# Altium footprint library Divers.PcbLib: 10 footprints
Each footprint in its own frame and in the unit in brackets; x right, y up, seen from the top. Pads: shape width x height; smd on the part's side, far side on the other; paste and mask are expansions set on the pad; w line width, h text height; cw(c..) or ccw(c..) is an arc to the next point about the centre after c.
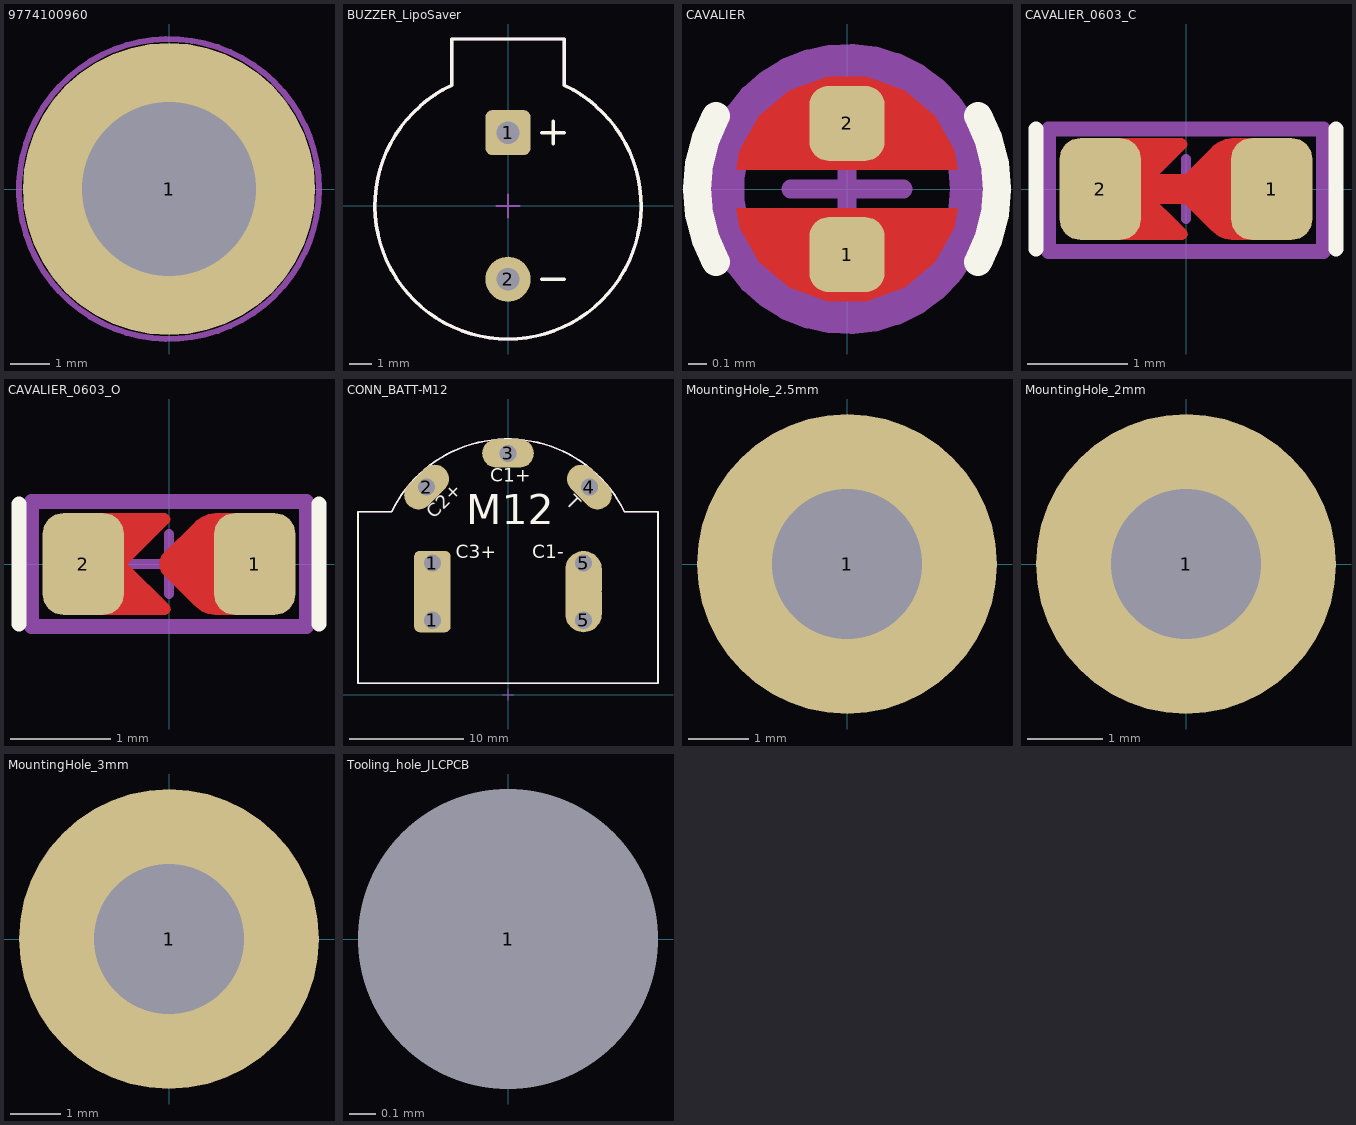
[diagram p0: the footprints below, top view; thin cyan lines are the x and y axes]

## 9774100960 [mm] "SMT Steel Spacer Internal hole diameter 3.3mm non stop, height 10mm"
height 10
pads (1):
  round 7.4 hole 4.4: 1(0,0)
Top Paste:
  region: 0.4,3.613 0.4,2.204 0.566,2.167 0.886,2.057 1.186,1.9 1.46,1.699 1.699,1.46 1.9,1.186 2.057,0.886 2.167,0.566 2.204,0.4 3.613,0.4 3.59,0.603 3.5,1.003 3.365,1.389 3.188,1.759 2.97,2.105 2.715,2.426 2.426,2.715 2.105,2.97 1.759,3.188 1.389,3.365 1.003,3.5 0.603,3.59
  region: 3.613,-0.4 2.204,-0.4 2.167,-0.566 2.057,-0.886 1.9,-1.186 1.699,-1.46 1.46,-1.699 1.186,-1.9 0.886,-2.057 0.566,-2.167 0.4,-2.204 0.4,-3.613 0.603,-3.59 1.003,-3.5 1.389,-3.365 1.759,-3.188 2.105,-2.97 2.426,-2.715 2.715,-2.426 2.97,-2.105 3.188,-1.759 3.365,-1.389 3.5,-1.003 3.59,-0.603
  region: -0.4,-3.613 -0.4,-2.204 -0.566,-2.167 -0.886,-2.057 -1.186,-1.9 -1.46,-1.699 -1.699,-1.46 -1.9,-1.186 -2.057,-0.886 -2.167,-0.566 -2.204,-0.4 -3.613,-0.4 -3.59,-0.603 -3.5,-1.003 -3.365,-1.389 -3.188,-1.759 -2.97,-2.105 -2.715,-2.426 -2.426,-2.715 -2.105,-2.97 -1.759,-3.188 -1.389,-3.365 -1.003,-3.5 -0.603,-3.59
  region: -3.613,0.4 -2.204,0.4 -2.167,0.566 -2.057,0.886 -1.9,1.186 -1.699,1.46 -1.46,1.699 -1.186,1.9 -0.886,2.057 -0.566,2.167 -0.4,2.204 -0.4,3.613 -0.603,3.59 -1.003,3.5 -1.389,3.365 -1.759,3.188 -2.105,2.97 -2.426,2.715 -2.715,2.426 -2.97,2.105 -3.188,1.759 -3.365,1.389 -3.5,1.003 -3.59,0.603
Mechanical 13:
  circle w0.1: c0,0 r3
Mechanical 15:
  circle w0.15: c0,0 r3.8
  lines w0.1: -0.5,0 0.5,0 ; 0,-0.5 0,0.5
Mechanical 17 (Mech17):
  text ".Designator" at -0.4,-0.2 h1.5
3D body "9774100960.stp": height 10, standoff -1.4, extent -3,-3 3,3

## BUZZER_LipoSaver [mm] "Buzzer extrait de la carte LipoSaver"
height 7.7
pads (2):
  rrect30% 2x2 hole 1: 1(0,3.25)
  round 2 hole 1: 2(0,-3.25)
Top Overlay:
  lines w0.15: 1.5,-3.25 2.5,-3.25 ; 1.5,3.25 2.5,3.25 ; 2,2.75 2,3.75 ; -2.5,5.344 ccw(c0,0) 2.5,5.344 2.5,7.4 -2.5,7.4 -2.5,5.344
Mechanical 15:
  lines w0.1: -0.5,0 0.5,0 ; 0,-0.5 0,0.5
  lines w0.15: -2.5,5.344 ccw(c0,0) 2.5,5.344 2.5,7.4 -2.5,7.4 -2.5,5.344
Mechanical 17 (Mech17):
  text ".Designator" at -0.5,0 h1.5
3D body "Lipo_saver_buzzer.STEP": height 7.5, standoff -1.9, extent -6,-6 6,7.4

## CAVALIER [mm] "Connection personnalisé pour bord de carte"
pads (2):
  rrect50% 0.4x0.4 smd: 1(0,-0.35) 2(0,0.35)
Top Layer:
  region: -0.591,-0.102 -0.573,-0.206 -0.468,-0.39 -0.305,-0.527 -0.106,-0.6 0.106,-0.6 0.305,-0.527 0.468,-0.39 0.573,-0.206 0.591,-0.102
  region: -0.591,0.102 0.591,0.102 0.573,0.206 0.468,0.39 0.305,0.527 0.106,0.6 -0.106,0.6 -0.305,0.527 -0.468,0.39 -0.573,0.206
Top Overlay:
  lines w0.15: -0.699,-0.389 cw(c0,0) -0.699,0.389 ; 0.699,-0.389 ccw(c0,0) 0.699,0.389
Top Solder:
  circle w0.254: c0,0 r0.6
  region: 0,-0.6 -0.119,-0.6 -0.34,-0.509 -0.509,-0.34 -0.6,-0.119 -0.6,0 -0.6,0.119 -0.509,0.34 -0.34,0.509 -0.119,0.6 0,0.6 0.119,0.6 0.34,0.509 0.509,0.34 0.6,0.119 0.6,0 0.6,-0.119 0.509,-0.34 0.34,-0.509 0.119,-0.6
Mechanical 13:
  circle w0.1: c0,0 r0.6
Mechanical 15:
  circle w0.15: c0,0 r0.7
  lines w0.1: -0.3,0 0.3,0 ; 0,-0.3 0,0.3
Mechanical 17 (Mech17):
  text ".Designator" at -0.4,-0.2 h0.6

## CAVALIER_0603_C [mil] "Jumper ferme"
pads (2):
  rrect50% 32x40 smd: 1(33.75,0) 2(-33.75,0)
Top Layer:
  region: -26.25,0 -16.25,0 -0.15,-16.1 0.34,-16.59 0.61,-17.95 0.08,-19.23 -1.07,-20 -1.76,-20 -26.25,-20
  region: -26.25,0 -16.25,0 -0.25,16 0.25,16.5 0.53,17.9 -0.02,19.21 -1.2,20 -1.91,20 -26.25,20
  region: 3.94,5.91 -19.68,5.91 -19.68,-5.91 3.94,-5.91
  region: 33.75,20 19.24,20 17.94,20 15.37,19.49 12.96,18.49 10.79,17.04 9.87,16.12 -6.25,0 9.94,-16.19 10.84,-17.09 12.98,-18.52 15.35,-19.5 17.86,-20 19.14,-20 33.75,-20
Top Overlay:
  lines w5.91: -59.06,-23.62 -59.06,23.62 ; 59.06,-23.62 59.06,23.62
Top Paste:
  region: -26.25,0 -16.25,0 3.75,-20 -26.25,-20
  region: -26.25,0 -16.25,0 3.75,20 -26.25,20
  region: 23.75,20 13.75,20 -6.25,0 13.75,-20 23.75,-20
Top Solder:
  region: -26.25,0 -16.25,0 2.16,18.41 2.82,19.06 3.18,20.88 2.47,22.59 0.93,23.62 0,23.62 -26.25,23.62
  region: -26.25,0 -16.25,0 2.19,-18.45 2.84,-19.1 3.19,-20.9 2.49,-22.6 0.96,-23.62 0.04,-23.62 -26.25,-23.62
  region: 23.75,23.62 17.37,23.62 -1.91,4.34 -2.77,3.48 -3.71,1.22 -3.71,-1.22 -2.77,-3.48 -1.91,-4.34 17.37,-23.62 23.75,-23.62
Mechanical 13:
  circle w3.94: c25.59,0 r7.87
  circle w3.94: c-25.59,0 r7.87
  lines w3.94: -17.72,0 17.72,0 ; -54.13,-24.61 54.13,-24.61 54.13,24.61 -54.13,24.61 -54.13,-24.61
Mechanical 15:
  lines w3.94: -11.81,0 11.81,0 ; 0,-11.81 0,11.81
  lines w5.91: -54.13,-24.61 54.13,-24.61 54.13,23.62 -54.13,23.62 -54.13,-24.61
Mechanical 17 (Mech17):
  text ".Designator" at -15.75,-7.87 h39.37

## CAVALIER_0603_O [mil] "Jumper ouvert"
pads (2):
  rrect50% 32x40 smd: 1(33.75,0) 2(-33.75,0)
Top Layer:
  region: -26.25,0 -16.25,0 -0.15,-16.1 0.34,-16.59 0.61,-17.95 0.08,-19.23 -1.07,-20 -1.76,-20 -26.25,-20
  region: -26.25,0 -16.25,0 -0.25,16 0.25,16.5 0.53,17.9 -0.02,19.21 -1.2,20 -1.91,20 -26.25,20
  region: 33.75,20 19.24,20 17.94,20 15.37,19.49 12.96,18.49 10.79,17.04 9.87,16.12 -1.91,4.34 -2.77,3.48 -3.71,1.22 -3.71,-1.22 -2.77,-3.47 -1.91,-4.34 9.94,-16.19 10.84,-17.09 12.98,-18.52 15.35,-19.5 17.86,-20 19.14,-20 33.75,-20
Top Overlay:
  lines w5.91: -59.06,-23.62 -59.06,23.62 ; 59.06,-23.62 59.06,23.62
Top Paste:
  region: -26.25,0 -16.25,0 3.75,-20 -26.25,-20
  region: -26.25,0 -16.25,0 3.75,20 -26.25,20
  region: 23.75,20 13.75,20 -6.25,0 13.75,-20 23.75,-20
Top Solder:
  region: -26.25,0 -16.25,0 2.16,18.41 2.82,19.06 3.18,20.88 2.47,22.59 0.93,23.62 0,23.62 -26.25,23.62
  region: -26.25,0 -16.25,0 2.19,-18.45 2.84,-19.1 3.19,-20.9 2.49,-22.6 0.96,-23.62 0.04,-23.62 -26.25,-23.62
  region: 23.75,23.62 17.37,23.62 -1.91,4.34 -2.77,3.48 -3.71,1.22 -3.71,-1.22 -2.77,-3.48 -1.91,-4.34 17.37,-23.62 23.75,-23.62
Mechanical 13:
  circle w3.94: c25.59,0 r7.87
  circle w3.94: c-25.59,0 r7.87
  lines w3.94: -17.72,0 -11.81,0 ; 11.81,0 17.72,0 ; -54.13,-24.61 54.13,-24.61 54.13,24.61 -54.13,24.61 -54.13,-24.61
Mechanical 15:
  lines w3.94: -11.81,0 11.81,0 ; 0,-11.81 0,11.81
  lines w5.91: -54.13,-24.61 54.13,-24.61 54.13,24.61 -54.13,24.61 -54.13,-24.61
Mechanical 17 (Mech17):
  text ".Designator" at -15.75,-7.87 h39.37

## CONN_BATT-M12 [mm] "Batterie connector for Milwaukee M12, use 2x RS 125-2006 and 3x RS 125-2000"
height 9.2
pads (7):
  rrect30% 3.2x5 hole 1.5 copper offset 0,1.45: 1(-6.6,6.5)
  rrect30% 3.2x5 hole 1.5 copper offset 0,-1.45: 1(-6.6,11.5)
  rrect100% 2.5x4.5 hole 1.5 rot 135: 2(-7.106,18.134)
  oval 4.5x2.5 hole 1.5: 3(0,21.077)
  oval 2.5x4.5 hole 1.5 rot 45: 4(7.106,18.134)
  rrect100% 3.2x5 hole 1.5 copper offset 0,1.45: 5(6.6,6.5)
  rrect100% 3.2x5 hole 1.5 copper offset 0,-1.45: 5(6.6,11.5)
Top Overlay:
  lines w0.15: -10.155,15.983 cw(c0,11.027) 10.153,15.988 ; -10.155,15.986 -13.1,15.986 -13.1,1 13.1,1 13.1,15.986 10.148,15.986
  text "M12" at -3.663,14 h4.5
  text "C3+" at -4.571,11.543 h2
  text "C1+" at -1.571,18.221 h2
  text "C1-" at 2.132,11.521 h2
  text "T" at 4.714,16.457 h2
  text "C2+" at -6.197,15.003 h2
Mechanical 15:
  lines w0.1: -0.5,0 0.5,0 ; 0,-0.5 0,0.5
  lines w0.15: -10.155,15.983 cw(c0,11.027) 10.153,15.988 ; -10.155,15.986 -13.1,15.986 -13.1,1 13.1,1 13.1,15.986 10.148,15.986
Mechanical 17 (Mech17):
  text ".Designator" at -0.4,-0.2 h1.5
3D body "cosse_6.35x0.8 RS-1252006.STEP": height 9.45, standoff -4.6, extent 6.19,5.125 7.01,12.875
3D body "cosse_6.35x0.8 RS-1252006.STEP": height 9.45, standoff -4.6, extent -7.01,5.125 -6.19,12.875
3D body "cosse_2.8x0.8 RS-1252000.STEP": height 8.95, standoff -4.7, extent -8.811,16.43 -5.402,19.838
3D body "cosse_2.8x0.8 RS-1252000.STEP": height 8.95, standoff -4.7, extent -2,20.667 2,21.487
3D body "cosse_2.8x0.8 RS-1252000.STEP": height 8.95, standoff -4.7, extent 5.402,16.43 8.81,19.838

## MountingHole_2.5mm [mm]
pads (1):
  round 5 hole 2.5: 1(0,0)

## MountingHole_2mm [mm]
pads (1):
  round 4 hole 2: 1(0,0)

## MountingHole_3mm [mm]
pads (1):
  round 6 hole 3: 1(0,0)

## Tooling_hole_JLCPCB [mm]
pads (1):
  round 1 hole 1.152 unplated paste+1.152 mask+0.148: 1(0,0)